# EAGLE library part SAMTEC_SSQ_2X10 (library Simplex-Connectors)
Samtec SSQ 2x10 pin header
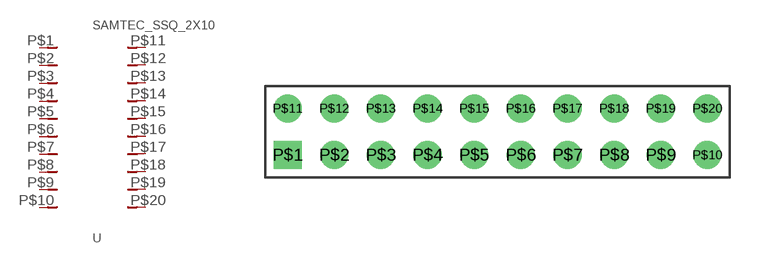
[diagram p8: symbol with the pads of SSQ-110-03-G-D; footprint SSQ-110-03-G-D]

Designator prefix -

## SAMTEC_SSQ_2X10  [SSQ-110-03-G-D]
P$1  P$1
P$2  P$2
P$3  P$3
P$4  P$4
P$5  P$5
P$6  P$6
P$7  P$7
P$8  P$8
P$9  P$9
P$10  P$10
P$11  P$11
P$12  P$12
P$13  P$13
P$14  P$14
P$15  P$15
P$16  P$16
P$17  P$17
P$18  P$18
P$19  P$19
P$20  P$20

## Footprint SSQ-110-03-G-D (pad centres in mm)
Samtec SSQ 2x10 pin header
drill 1.02 square: P$1 0,0
drill 1.02: P$2 2.54,0; P$3 5.08,0; P$4 7.62,0; P$5 10.16,0; P$6 12.7,0; P$7 15.24,0; P$8 17.78,0; P$9 20.32,0; P$10 22.86,0; P$11 0,2.54; P$12 2.54,2.54; P$13 5.08,2.54; P$14 7.62,2.54; P$15 10.16,2.54; P$16 12.7,2.54; P$17 15.24,2.54; P$18 17.78,2.54; P$19 20.32,2.54; P$20 22.86,2.54